# EAGLE library part ADC08200 (library common)
- 20 - 200MHz - Single-ended Input - 8-bit The ADC08200 uses a new, unique architecture that achieves over 7 effective bits at input frequencies up to and beyond 100 MHz. The analog input signal that is within the voltage range set by VRT and VRB is digitized to eight bits. Input voltages below VRB will cause the output word to consist of all zeroes. Input voltages above VRT will cause the output word to consist of all ones. Incorporating a switched capacitor bandgap, the ADC08200 exhibits a power consumption that is proportional to frequency, limiting power consumption to what is needed at the clock rate that is used. This and its excellent performance over a wide range of clock frequencies makes it an ideal choice as a single ADC for many 8-bit needs. Data is acquired at the rising edge of the clock and the digital equivalent of that data is available at the digital outputs 6 clock cycles plus tOD later. The ADC08200 will convert as long as the clock signal is present. The output coding is straight binary. The device is in the active state when the Power Down pin (PD) is low. When the PD pin is high, the device is in the power down mode, where the output pins hold the last conversion before the PD pin went high and the device consumes just 1.4 mW . Holding the clock input low will further reduce the power consumption in the power down mode to about 1 mW.
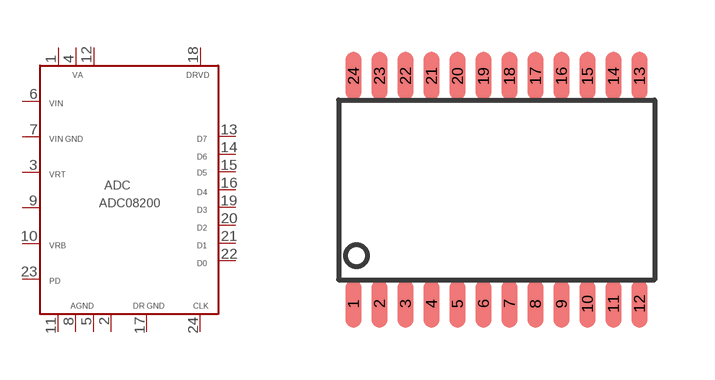
[diagram p37: symbol with the pads of R-PDSO-G24; footprint R-PDSO-G24]

Designator prefix ADC

## ADC08200  [R-PDSO-G24]
1  VA
2  AGND
3  VRT
4  VA
5  AGND
6  VIN
7  VIN_GND
8  AGND
9  VRM
10  VRB
11  AGND
12  VA
13  D7
14  D6
15  D5
16  D4
17  DR_GND
18  DRVD
19  D3
20  D2
21  D1
22  D0
23  PD
24  CLK

## Footprint R-PDSO-G24 (pad centres in mm)
smd 0.4 x 1.2: 1 -3.575,-2.85; 2 -2.925,-2.85; 3 -2.275,-2.85; 4 -1.625,-2.85; 5 -0.975,-2.85; 6 -0.325,-2.85; 7 0.325,-2.85; 8 0.975,-2.85; 9 1.625,-2.85; 10 2.275,-2.85; 11 2.925,-2.85; 12 3.575,-2.85; 13 3.575,2.85; 14 2.925,2.85; 15 2.275,2.85; 16 1.625,2.85; 17 0.975,2.85; 18 0.325,2.85; 19 -0.325,2.85; 20 -0.975,2.85; 21 -1.625,2.85; 22 -2.275,2.85; 23 -2.925,2.85; 24 -3.575,2.85